# Altium footprint library PcbLib.PcbLib: 21 footprints (part 1 of 2)
Each footprint in its own frame and in the unit in brackets; x right, y up, seen from the top. Pads: shape width x height; smd on the part's side, far side on the other; paste and mask are expansions set on the pad; w line width, h text height; cw(c..) or ccw(c..) is an arc to the next point about the centre after c.
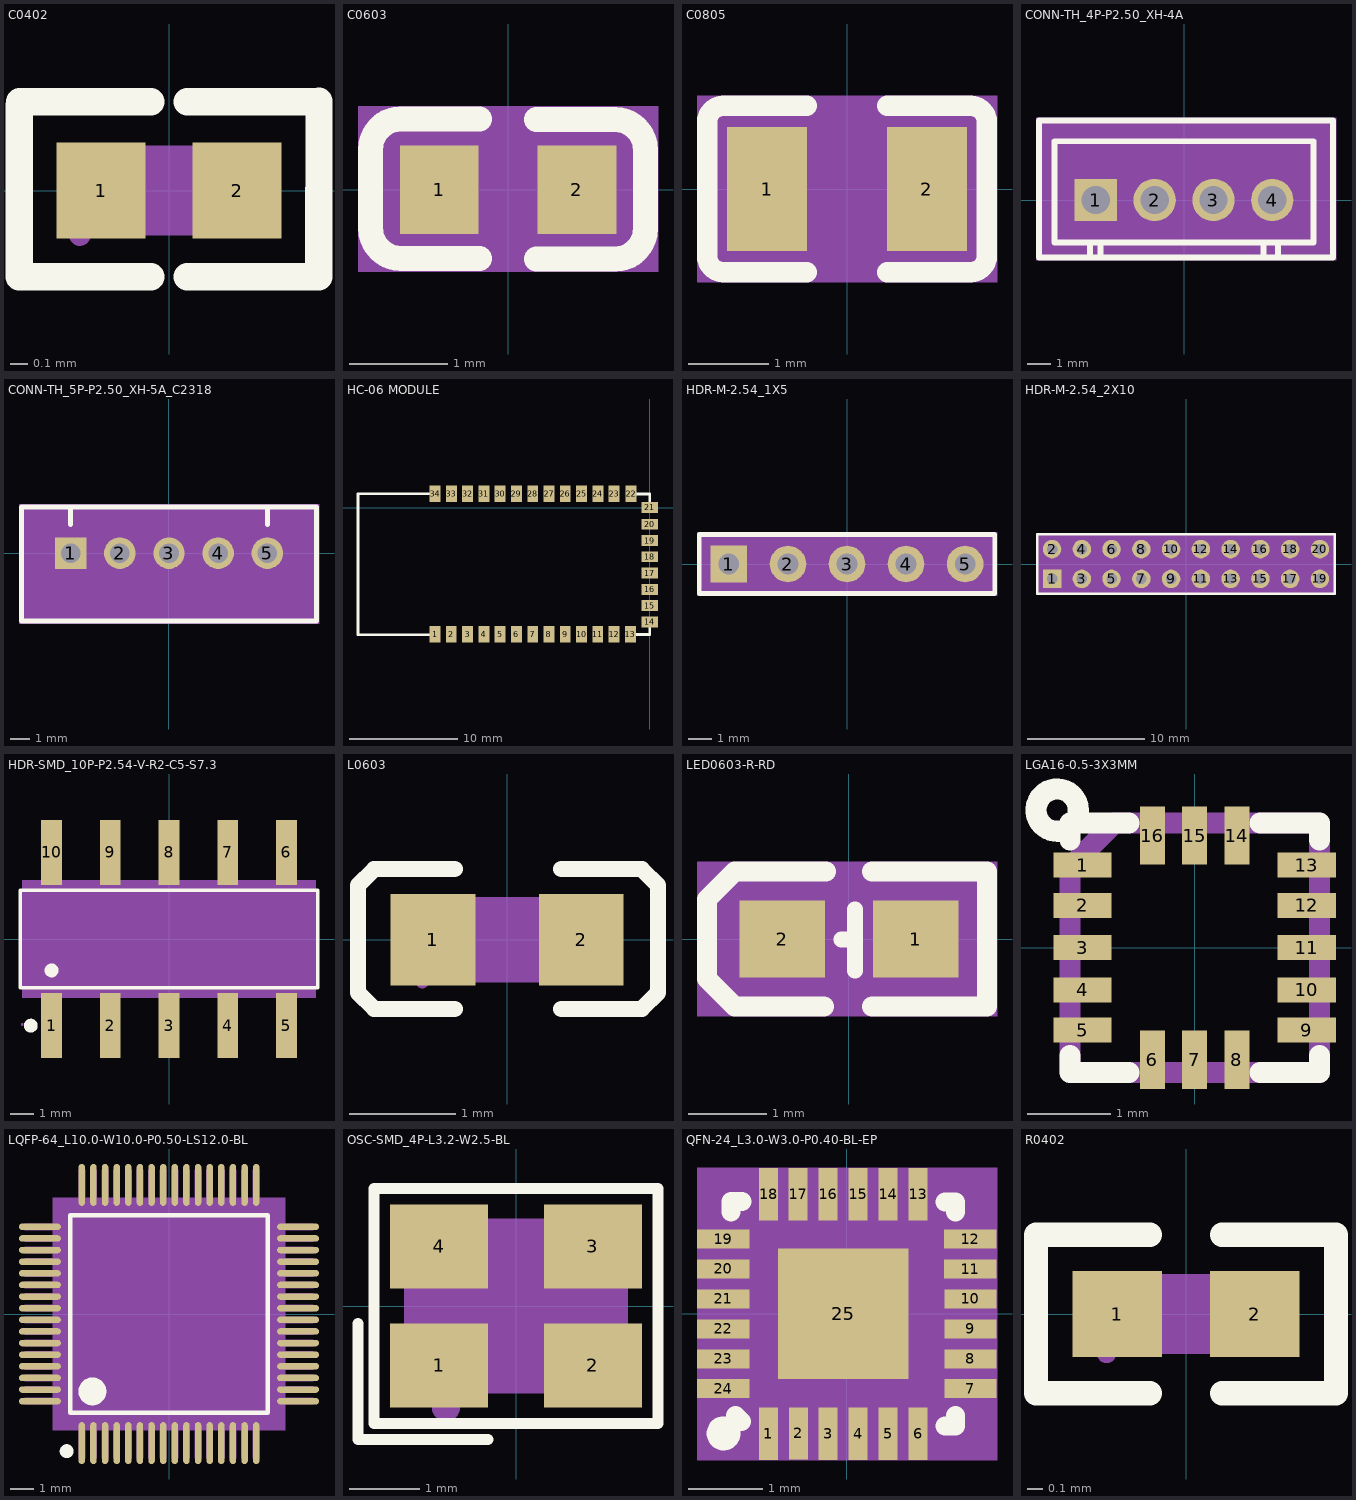
[diagram p0: the footprints below, top view; thin cyan lines are the x and y axes]

## C0402 [mm]
pads (2):
  rect 0.5x0.54 smd: 1(-0.381,0) 2(0.381,0)
Top Overlay:
  lines w0.152: -0.841,-0.483 -0.102,-0.483 ; -0.84,-0.48 -0.84,0.48 ; -0.838,0.498 -0.102,0.498 ; 0.102,-0.483 0.838,-0.483 ; 0.102,0.498 0.839,0.498 ; 0.838,-0.46 0.84,0.5
Top Paste:
  region: -0.63,0.24 -0.6,0.27 -0.15,0.27 -0.13,0.25 -0.13,-0.25 -0.15,-0.27 -0.61,-0.27 -0.63,-0.25
  region: 0.13,0.24 0.16,0.27 0.61,0.27 0.63,0.25 0.63,-0.25 0.61,-0.27 0.15,-0.27 0.13,-0.25
Mechanical 4:
  region: -0.5,-0.25 -0.5,0.25 0.5,0.25 0.5,-0.25
Mechanical 5:
  region: 0.5,-0.25 0.5,0.25 0.25,0.25 0.25,-0.25
  region: -0.5,-0.25 -0.5,0.25 -0.25,0.25 -0.25,-0.25
Mechanical 6:
  circle w0.06: c-0.5,-0.25 r0.03

## C0603 [mm]
pads (2):
  rect 0.8x0.9 smd: 1(-0.7,0) 2(0.7,0)
Top Overlay:
  lines w0.254: -0.289,-0.698 -1.089,-0.698 cw(c-1.089,-0.388) -1.399,-0.388 -1.398,0.412 cw(c-1.089,0.412) -1.089,0.722 -0.289,0.722 ; 0.287,-0.704 1.087,-0.704 ccw(c1.087,-0.394) 1.397,-0.394 1.397,0.406 ccw(c1.087,0.406) 1.087,0.716 0.287,0.716
Mechanical 4:
  region: -1.526,0.849 1.524,0.849 1.524,-0.831 -1.526,-0.831
Mechanical 5:
  region: -1.1,0.45 -0.3,0.45 -0.3,-0.45 -1.1,-0.45
  region: 0.3,0.45 1.1,0.45 1.1,-0.45 0.3,-0.45

## C0805 [mm]
pads (2):
  rect 1x1.55 smd: 1(-1,0) 2(1,0)
Top Overlay:
  lines w0.254: -1.75,0.82 -1.75,0.8 ; -0.5,-1.04 -1.55,-1.04 cw(c-1.55,-0.84) -1.75,-0.84 -1.75,-0.8 -1.75,0.8 ; -0.5,1.04 -1.55,1.04 ccw(c-1.55,0.84) -1.75,0.84 -1.75,0.8 ; 0.5,-1.04 1.55,-1.04 ccw(c1.55,-0.84) 1.75,-0.84 1.75,-0.8 1.75,0.8 1.75,0.84 ccw(c1.55,0.84) 1.55,1.04 0.5,1.04
Mechanical 4:
  region: -1.877,1.167 1.877,1.167 1.877,-1.167 -1.877,-1.167
Mechanical 5:
  region: 0.5,0.775 1.5,0.775 1.5,-0.775 0.5,-0.775
  region: -1.5,0.775 -0.5,0.775 -0.5,-0.775 -1.5,-0.775

## CONN-TH_4P-P2.50_XH-4A [mm]
pads (4):
  rect 1.8x1.8 hole 1.199: 1(-3.75,0)
  round 1.8 hole 1.199: 2(-1.248,0) 3(1.251,0) 4(3.75,0)
Top Overlay:
  lines w0.254: -6.166,-2.432 -6.166,3.368 ; -6.163,-2.438 6.333,-2.438 ; -6.163,3.378 6.333,3.378 6.333,-2.413 ; -4,-2.438 -4,-1.803 ; -3.558,-2.438 -3.558,-1.803 ; 3.373,-2.438 3.373,-1.803 ; 4,-2.438 4,-1.803 ; -5.5,-1.803 -5.5,2.5 5.5,2.5 5.5,-1.803 -5.5,-1.803
Mechanical 4:
  region: -6.293,3.505 6.46,3.505 6.46,-2.565 -6.293,-2.565
Mechanical 5:
  region: -4.65,0.9 -2.85,0.9 -2.85,-0.9 -4.65,-0.9
  region: -2.148,0.9 -0.348,0.9 -0.348,-0.9 -2.148,-0.9
  region: 0.351,0.9 2.151,0.9 2.151,-0.9 0.351,-0.9
  region: 2.85,0.9 4.65,0.9 4.65,-0.9 2.85,-0.9

## CONN-TH_5P-P2.50_XH-5A_C2318 [mm]
pads (5):
  rect 1.6x1.6 hole 1: 1(-5,0)
  round 1.6 hole 1: 2(-2.5,0) 3(0,0) 4(2.5,0) 5(5,0)
Top Overlay:
  lines w0.254: -5,1.45 -5,2.35 ; 5,1.45 5,2.349 ; -7.5,-3.45 7.5,-3.45 7.5,2.35 -7.5,2.35 -7.5,-3.45
Mechanical 4:
  region: -7.627,2.477 7.627,2.477 7.627,-3.577 -7.627,-3.577
Mechanical 5:
  region: -5.8,0.8 -4.2,0.8 -4.2,-0.8 -5.8,-0.8
  region: -3.3,0.8 -1.7,0.8 -1.7,-0.8 -3.3,-0.8
  region: -0.8,0.8 0.8,0.8 0.8,-0.8 -0.8,-0.8
  region: 1.7,0.8 3.3,0.8 3.3,-0.8 1.7,-0.8
  region: 4.2,0.8 5.8,0.8 5.8,-0.8 4.2,-0.8

## HC-06 MODULE [mil]
pads (34):
  rect 39.37x60 smd: 1(-778.75,-460.1) 2(-719.65,-460.1) 3(-660.65,-460.1) 4(-601.55,-460.1) 5(-542.55,-460.1) 6(-483.45,-460.1) 7(-424.35,-460.1) 8(-365.25,-460.1) 9(-306.2,-460.1) 10(-247.1,-460.1) 11(-188.1,-460.1) 12(-129,-460.1) 13(-69.9,-460.1) 22(-67.55,49.8) 23(-128.8,50.2) 24(-187.9,50.2) 25(-246.9,50.2) 26(-306,50.2) 27(-365.05,50.2) 28(-424.15,50.2) 29(-483.25,50.2) 30(-542.35,50.2) 31(-601.4,50.2) 32(-660.35,50.2) 33(-719.35,50.2) 34(-778.45,50.2)
  rect 60x39.37 smd: 14(0.2,-415.25) 15(0.3,-356.05) 16(0.2,-297) 17(0.2,-237.95) 18(0.2,-178.9) 19(0.2,-119.85) 20(0.2,-60.8) 21(0.2,0.15)
Top Overlay:
  lines w10: -798.34,-461.81 -1058.2,-461.8 -1058.2,50 -798.34,50 ; -49.21,-460.63 0,-460.6 0,-435 ; -47.2,49.2 0,49.2 0,23.62

## HDR-M-2.54_1X5 [mil]
pads (5):
  rect 62x62 hole 35: 1(-200,0)
  round 62 hole 35: 2(-100,0) 3(0,0) 4(100,0) 5(200,0)
Top Overlay:
  lines w7.99: -175,50 250,50
  lines w8: -175,50 -250,50 -250,-50 250,-50 250,50
Mechanical 4:
  region: -254,54 254,54 254,-54 -254,-54
Mechanical 5:
  region: 169,31 231,31 231,-31 169,-31
  region: 69,31 131,31 131,-31 69,-31
  region: -31,31 31,31 31,-31 -31,-31
  region: -131,31 -69,31 -69,-31 -131,-31
  region: -231,31 -169,31 -169,-31 -231,-31

## HDR-M-2.54_2X10 [mil]
pads (20):
  rect 62x62 hole 35: 1(-450,-50)
  round 62 hole 35: 2(-450,50) 3(-350,-50) 4(-350,50) 5(-250,-50) 6(-250,50) 7(-150,-50) 8(-150,50) 9(-50,-50) 10(-50,50) 11(50,-50) 12(50,50) 13(150,-50) 14(150,50) 15(250,-50) 16(250,50) 17(350,-50) 18(350,50) 19(450,-50) 20(450,50)
Top Overlay:
  lines w8: -500,-100 -500,100 -425,100 500,100 500,-100 -425,-100 -500,-100
Mechanical 4:
  region: -504,104 504,104 504,-104 -504,-104
Mechanical 5:
  region: -481,-19 -419,-19 -419,-81 -481,-81
  region: -481,81 -419,81 -419,19 -481,19
  region: -381,-19 -319,-19 -319,-81 -381,-81
  region: -381,81 -319,81 -319,19 -381,19
  region: -281,-19 -219,-19 -219,-81 -281,-81
  region: -281,81 -219,81 -219,19 -281,19
  region: -181,-19 -119,-19 -119,-81 -181,-81
  region: -181,81 -119,81 -119,19 -181,19
  region: -81,-19 -19,-19 -19,-81 -81,-81
  region: -81,81 -19,81 -19,19 -81,19
  region: 19,-19 81,-19 81,-81 19,-81
  region: 19,81 81,81 81,19 19,19
  region: 119,-19 181,-19 181,-81 119,-81
  region: 119,81 181,81 181,19 119,19
  region: 219,-19 281,-19 281,-81 219,-81
  region: 219,81 281,81 281,19 219,19
  region: 319,-19 381,-19 381,-81 319,-81
  region: 319,81 381,81 381,19 319,19
  region: 419,-19 481,-19 481,-81 419,-81
  region: 419,81 481,81 481,19 419,19

## HDR-SMD_10P-P2.54-V-R2-C5-S7.3 [mm]
pads (10):
  rect 0.896x2.818 smd: 1(-5.08,-3.749) 2(-2.54,-3.749) 3(0,-3.749) 4(2.54,-3.749) 5(5.08,-3.749) 6(5.08,3.749) 7(2.54,3.749) 8(0,3.749) 9(-2.54,3.749) 10(-5.08,3.749)
Top Overlay:
  circle w0.3: c-5.08,-1.359 r0.15
  circle w0.3: c-5.98,-3.749 r0.15
  lines w0.152: -6.426,-2.111 -6.426,2.111 6.426,2.111 6.426,-2.111 -6.426,-2.111
Mechanical 4:
  region: -6.35,-2.54 -6.35,2.54 6.35,2.54 6.35,-2.54
Mechanical 5:
  region: -5.4,-3.7 -5.4,-1.27 -4.76,-1.27 -4.76,-3.7
  region: -2.86,-3.7 -2.86,-1.27 -2.22,-1.27 -2.22,-3.7
  region: -0.32,-3.7 -0.32,-1.27 0.32,-1.27 0.32,-3.7
  region: 2.22,-3.7 2.22,-1.27 2.86,-1.27 2.86,-3.7
  region: 4.76,-3.7 4.76,-1.27 5.4,-1.27 5.4,-3.7
  region: -5.4,3.7 -5.4,1.27 -4.76,1.27 -4.76,3.7
  region: -2.86,3.7 -2.86,1.27 -2.22,1.27 -2.22,3.7
  region: -0.32,3.7 -0.32,1.27 0.32,1.27 0.32,3.7
  region: 2.22,3.7 2.22,1.27 2.86,1.27 2.86,3.7
  region: 4.76,3.7 4.76,1.27 5.4,1.27 5.4,3.7
Mechanical 6:
  circle w0.06: c-6.35,-3.7 r0.03
Mechanical 15:
  circle w0.3: c-5.08,-4.1 r0.15

## L0603 [mm]
pads (2):
  rect 0.8x0.864 smd: 1(-0.7,0) 2(0.7,0)
Top Overlay:
  lines w0.152: -0.494,-0.654 -1.256,-0.654 -1.408,-0.501 -1.408,0.515 -1.256,0.667 -0.494,0.667 ; 0.512,-0.654 1.274,-0.654 1.426,-0.501 1.426,0.515 1.274,0.667 0.512,0.667
Top Paste:
  region: -0.262,-0.138 -0.262,0.138 -0.536,0.432 -1.039,0.432 -1.103,0.368 -1.103,-0.368 -1.039,-0.432 -0.536,-0.432
  region: 0.254,-0.127 0.254,0.15 0.528,0.443 1.031,0.443 1.095,0.379 1.095,-0.357 1.031,-0.421 0.528,-0.421
Mechanical 4:
  region: -0.8,-0.4 -0.8,0.4 0.8,0.4 0.8,-0.4
Mechanical 5:
  region: 0.8,-0.4 0.8,0.4 0.5,0.4 0.5,-0.4
  region: -0.8,-0.4 -0.8,0.4 -0.5,0.4 -0.5,-0.4
Mechanical 6:
  circle w0.06: c-0.8,-0.4 r0.03

## LED0603-R-RD [mil]
pads (2):
  rect 43x39 smd: 1(33.5,0) 2(-33.5,0)
Top Overlay:
  lines w7.99: -3.9,-0.31 3,-0.31 ; 3,-16 3,15
  lines w10: -12.5,-34 -57.5,-34 -71.5,-20 -71.5,20 -57.5,34 -11.5,34 ; 11.5,-34 69.5,-34 69.5,34 11.5,34
Mechanical 4:
  region: -76.5,39 74.5,39 74.5,-39 -76.5,-39
Mechanical 5:
  region: 12,19.5 55,19.5 55,-19.5 12,-19.5
  region: -55,19.5 -12,19.5 -12,-19.5 -55,-19.5

## LGA16-0.5-3X3MM [mil]
pads (16):
  rect 27.6x11.8 smd: 1(-53,39) 2(-53,20) 3(-53,0) 4(-53,-20) 5(-53,-39) 9(53,-39) 10(53,-20) 11(53,0) 12(53,20) 13(53,39)
  rect 11.8x27.6 smd: 6(-20,-53) 7(0,-53) 8(20,-53) 14(20,53) 15(0,53) 16(-20,53)
Top Overlay:
  circle w10: c-65,65 r10
  lines w10: -59,-51 -59,-59 -31,-59 ; -59,51 -59,59 -31,59 ; 31,-59 59,-59 59,-51 ; 31,59 59,59 59,51
Mechanical 15:
  lines w10: -59,-59 59,-59 59,59 -38,59 -59,38 -59,-59

## LQFP-64_L10.0-W10.0-P0.50-LS12.0-BL [mm]
pads (64):
  oval 0.28x1.8 smd: 1(-3.75,-5.55) 2(-3.25,-5.55) 3(-2.75,-5.55) 4(-2.25,-5.55) 5(-1.75,-5.55) 6(-1.25,-5.55) 7(-0.75,-5.55) 8(-0.25,-5.55) 9(0.25,-5.55) 10(0.75,-5.55) 11(1.25,-5.55) 12(1.75,-5.55) 13(2.25,-5.55) 14(2.75,-5.55) 15(3.25,-5.55) 16(3.75,-5.55) 33(3.75,5.55) 34(3.25,5.55) 35(2.75,5.55) 36(2.25,5.55) 37(1.75,5.55) 38(1.25,5.55) 39(0.75,5.55) 40(0.25,5.55) 41(-0.25,5.55) 42(-0.75,5.55) 43(-1.25,5.55) 44(-1.75,5.55) 45(-2.25,5.55) 46(-2.75,5.55) 47(-3.25,5.55) 48(-3.75,5.55)
  oval 1.8x0.28 smd: 17(5.55,-3.75) 18(5.55,-3.25) 19(5.55,-2.75) 20(5.55,-2.25) 21(5.55,-1.75) 22(5.55,-1.25) 23(5.55,-0.75) 24(5.55,-0.25) 25(5.55,0.25) 26(5.55,0.75) 27(5.55,1.25) 28(5.55,1.75) 29(5.55,2.25) 30(5.55,2.75) 31(5.55,3.25) 32(5.55,3.75) 49(-5.55,3.75) 50(-5.55,3.25) 51(-5.55,2.75) 52(-5.55,2.25) 53(-5.55,1.75) 54(-5.55,1.25) 55(-5.55,0.75) 56(-5.55,0.25) 57(-5.55,-0.25) 58(-5.55,-0.75) 59(-5.55,-1.25) 60(-5.55,-1.75) 61(-5.55,-2.25) 62(-5.55,-2.75) 63(-5.55,-3.25) 64(-5.55,-3.75)
Top Overlay:
  lines w0.2: -4.25,-4.25 4.25,-4.25 4.25,4.25 -4.25,4.25 -4.25,-4.25
  lines w0.3: -4.399,-5.751 ccw(c-4.398,-5.901) -4.397,-5.751
  lines w0.6: -3.299,-3.025 ccw(c-3.297,-3.325) -3.294,-3.025
Mechanical 4:
  region: -5,5 5,5 5,-5 -5,-5
Mechanical 5:
  drawing of 64 lines, arcs and shapes, not listed

## OSC-SMD_4P-L3.2-W2.5-BL [mm]
pads (4):
  rect 1.4x1.2 smd: 1(-1.1,-0.85) 2(1.1,-0.85) 3(1.1,0.85) 4(-1.1,0.85)
Top Overlay:
  lines w0.152: -2.257,-0.25 -2.257,-1.907 -0.4,-1.907 ; -2.029,-1.678 -2.029,1.679 2.029,1.679 2.029,-1.678 -2.029,-1.678
Mechanical 4:
  region: -1.6,-1.25 -1.6,1.25 1.6,1.25 1.6,-1.25
Mechanical 5:
  region: -0.5,-1.15 -0.5,-0.35 -1.5,-0.35 -1.5,-1.15
  region: 0.5,-1.15 0.5,-0.35 1.5,-0.35 1.5,-1.15
  region: 0.5,1.15 0.5,0.35 1.5,0.35 1.5,1.15
  region: -0.5,1.15 -0.5,0.35 -1.5,0.35 -1.5,1.15
Mechanical 6:
  circle w0.06: c-1.6,-1.25 r0.03
Mechanical 15:
  circle w0.2: c-1,-1.45 r0.1

## QFN-24_L3.0-W3.0-P0.40-BL-EP [mil]
pads (25):
  rect 10x27.56 smd: 1(-41.35,-63.05) 2(-25.55,-62.95) 3(-9.85,-63.05) 4(5.95,-63.05) 5(21.75,-63.05) 6(37.45,-63.05) 13(37.45,63.05) 14(21.75,63.05) 15(5.85,62.95) 16(-9.85,63.05) 17(-25.65,63.05) 18(-41.25,62.95)
  rect 27.56x10 smd: 7(65.05,-39.35) 8(65.05,-23.65) 9(65.05,-7.85) 10(65.05,7.95) 11(64.95,23.65) 12(64.95,39.45) 19(-65.05,39.45) 20(-65.05,23.75) 21(-65.05,7.95) 22(-65.05,-7.85) 23(-65.05,-23.65) 24(-65.05,-39.35)
  rect 68.9x68.9 smd: 25(-1.95,0.05)
Top Overlay:
  circle w10: c-64.94,-62.94 r3.94
  lines w10: -61,53.55 -61,59.11 -55.35,59.11 ; -58.71,-53.42 -55.42,-56.71 ; 51.55,-59.05 57.12,-59.05 57.12,-53.45 ; 51.55,59.05 57.13,59.05 57.13,53.55
Mechanical 4:
  region: -78.95,76.95 79.05,76.95 79.05,-77.05 -78.95,-77.05
Mechanical 5:
  region: -78.83,-34.35 -51.27,-34.35 -51.27,-44.35 -78.83,-44.35
  region: -78.83,-18.65 -51.27,-18.65 -51.27,-28.65 -78.83,-28.65
  region: -78.83,-2.85 -51.27,-2.85 -51.27,-12.85 -78.83,-12.85
  region: -78.83,12.95 -51.27,12.95 -51.27,2.95 -78.83,2.95
  region: -78.83,28.75 -51.27,28.75 -51.27,18.75 -78.83,18.75
  region: -78.83,44.45 -51.27,44.45 -51.27,34.45 -78.83,34.45
  region: -46.25,76.73 -36.25,76.73 -36.25,49.17 -46.25,49.17
  region: -30.65,76.83 -20.65,76.83 -20.65,49.27 -30.65,49.27
  region: -14.85,76.83 -4.85,76.83 -4.85,49.27 -14.85,49.27
  region: 0.85,76.73 10.85,76.73 10.85,49.17 0.85,49.17
  region: 16.75,76.83 26.75,76.83 26.75,49.27 16.75,49.27
  region: 32.45,76.83 42.45,76.83 42.45,49.27 32.45,49.27
  region: 51.17,44.45 78.73,44.45 78.73,34.45 51.17,34.45
  region: 51.17,28.65 78.73,28.65 78.73,18.65 51.17,18.65
  region: 51.27,12.95 78.83,12.95 78.83,2.95 51.27,2.95
  region: 51.27,-2.85 78.83,-2.85 78.83,-12.85 51.27,-12.85
  region: 51.27,-18.65 78.83,-18.65 78.83,-28.65 51.27,-28.65
  region: 51.27,-34.35 78.83,-34.35 78.83,-44.35 51.27,-44.35
  region: 32.45,-49.27 42.45,-49.27 42.45,-76.83 32.45,-76.83
  region: 16.75,-49.27 26.75,-49.27 26.75,-76.83 16.75,-76.83
  region: 0.95,-49.27 10.95,-49.27 10.95,-76.83 0.95,-76.83
  region: -14.85,-49.27 -4.85,-49.27 -4.85,-76.83 -14.85,-76.83
  region: -30.55,-49.17 -20.55,-49.17 -20.55,-76.73 -30.55,-76.73
  region: -46.35,-49.27 -36.35,-49.27 -36.35,-76.83 -46.35,-76.83
  region: -36.4,34.5 32.5,34.5 32.5,-34.4 -36.4,-34.4

## R0402 [mm]
pads (2):
  rect 0.566x0.54 smd: 1(-0.433,0) 2(0.433,0)
Top Overlay:
  lines w0.152: -0.226,-0.499 -0.944,-0.499 -0.944,0.499 -0.226,0.499 ; 0.226,-0.499 0.944,-0.499 0.944,0.499 0.226,0.499
Top Paste:
  region: -0.135,-0.23 -0.135,0.23 -0.175,0.27 -0.676,0.27 -0.716,0.23 -0.716,-0.23 -0.676,-0.27 -0.175,-0.27
  region: 0.135,-0.23 0.135,0.23 0.175,0.27 0.676,0.27 0.716,0.23 0.716,-0.23 0.676,-0.27 0.175,-0.27
Mechanical 4:
  region: -0.5,-0.25 -0.5,0.25 0.5,0.25 0.5,-0.25
Mechanical 5:
  region: 0.5,-0.25 0.5,0.25 0.25,0.25 0.25,-0.25
  region: -0.5,-0.25 -0.5,0.25 -0.25,0.25 -0.25,-0.25
Mechanical 6:
  circle w0.06: c-0.5,-0.25 r0.03